# Altium schematic symbol library SN74LVC2G04DCK.Schlib: 1 symbol
Pins are listed as number, name and electrical type; pins without a type are passive.

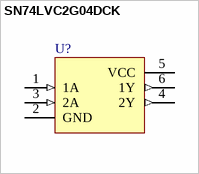
[diagram p0: symbol SN74LVC2G04DCK]

## SN74LVC2G04DCK
designator U?
Dual Inverter Gate
pins: 1 1A (in), 2 GND (power), 3 2A (in), 4 2Y (out), 5 VCC (power), 6 1Y (out)